# EAGLE library part SI9926 (library lfpak.mosfet)
Si9926DY Dual N-Channel 2.5V Specified PowerTrench MOSFET General Description These N-Channel 2.5V specified MOSFETs use Fairchild Semiconductor?s advanced PowerTrench process. It has been optimized for power management applications with a wide range of gate drive voltage (2.5V ? 10V). Application ? Battery protection ? Load switch ? Power management Features ? 6.5 A, 20 V. RDS(ON) = 0.030 ? @ VGS = 4.5 V RDS(ON) = 0.043 ? @ VGS = 2.5 V. ? Optimized for use in battery protection circuits ? ±10 VGSS allows for wide operating voltage range ? Low gate charge
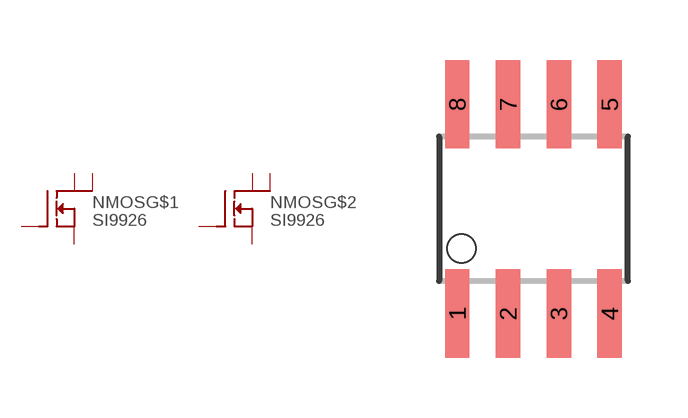
[diagram p2: symbol with the pads of SO08; footprint SO08]

Designator prefix NMOS; gates G$1=MOSFET2N G$2=MOSFET2N

## SI9926 (MPN: SI9926CDY-T1-E3; OC_FARNELL: 1684059; PACKAGE: SO-08; SUPPLIER: VISHAY)  [SO08]
1  G$1:S
2  G$1:G
3  G$2:S
4  G$2:G
5  G$2:D
6  G$2:D1
7  G$1:D1
8  G$1:D

## Footprint SO08 (pad centres in mm)
Small Outline Package
smd 0.61 x 2.21: 1 -1.905,-2.616; 2 -0.635,-2.616; 3 0.635,-2.616; 4 1.905,-2.616; 5 1.905,2.616; 6 0.635,2.616; 7 -0.635,2.616; 8 -1.905,2.616